# Altium footprint library PARSEC.PcbLib: 17 footprints (part 1 of 2)
Each footprint in its own frame and in the unit in brackets; x right, y up, seen from the top. Pads: shape width x height; smd on the part's side, far side on the other; paste and mask are expansions set on the pad; w line width, h text height; cw(c..) or ccw(c..) is an arc to the next point about the centre after c.
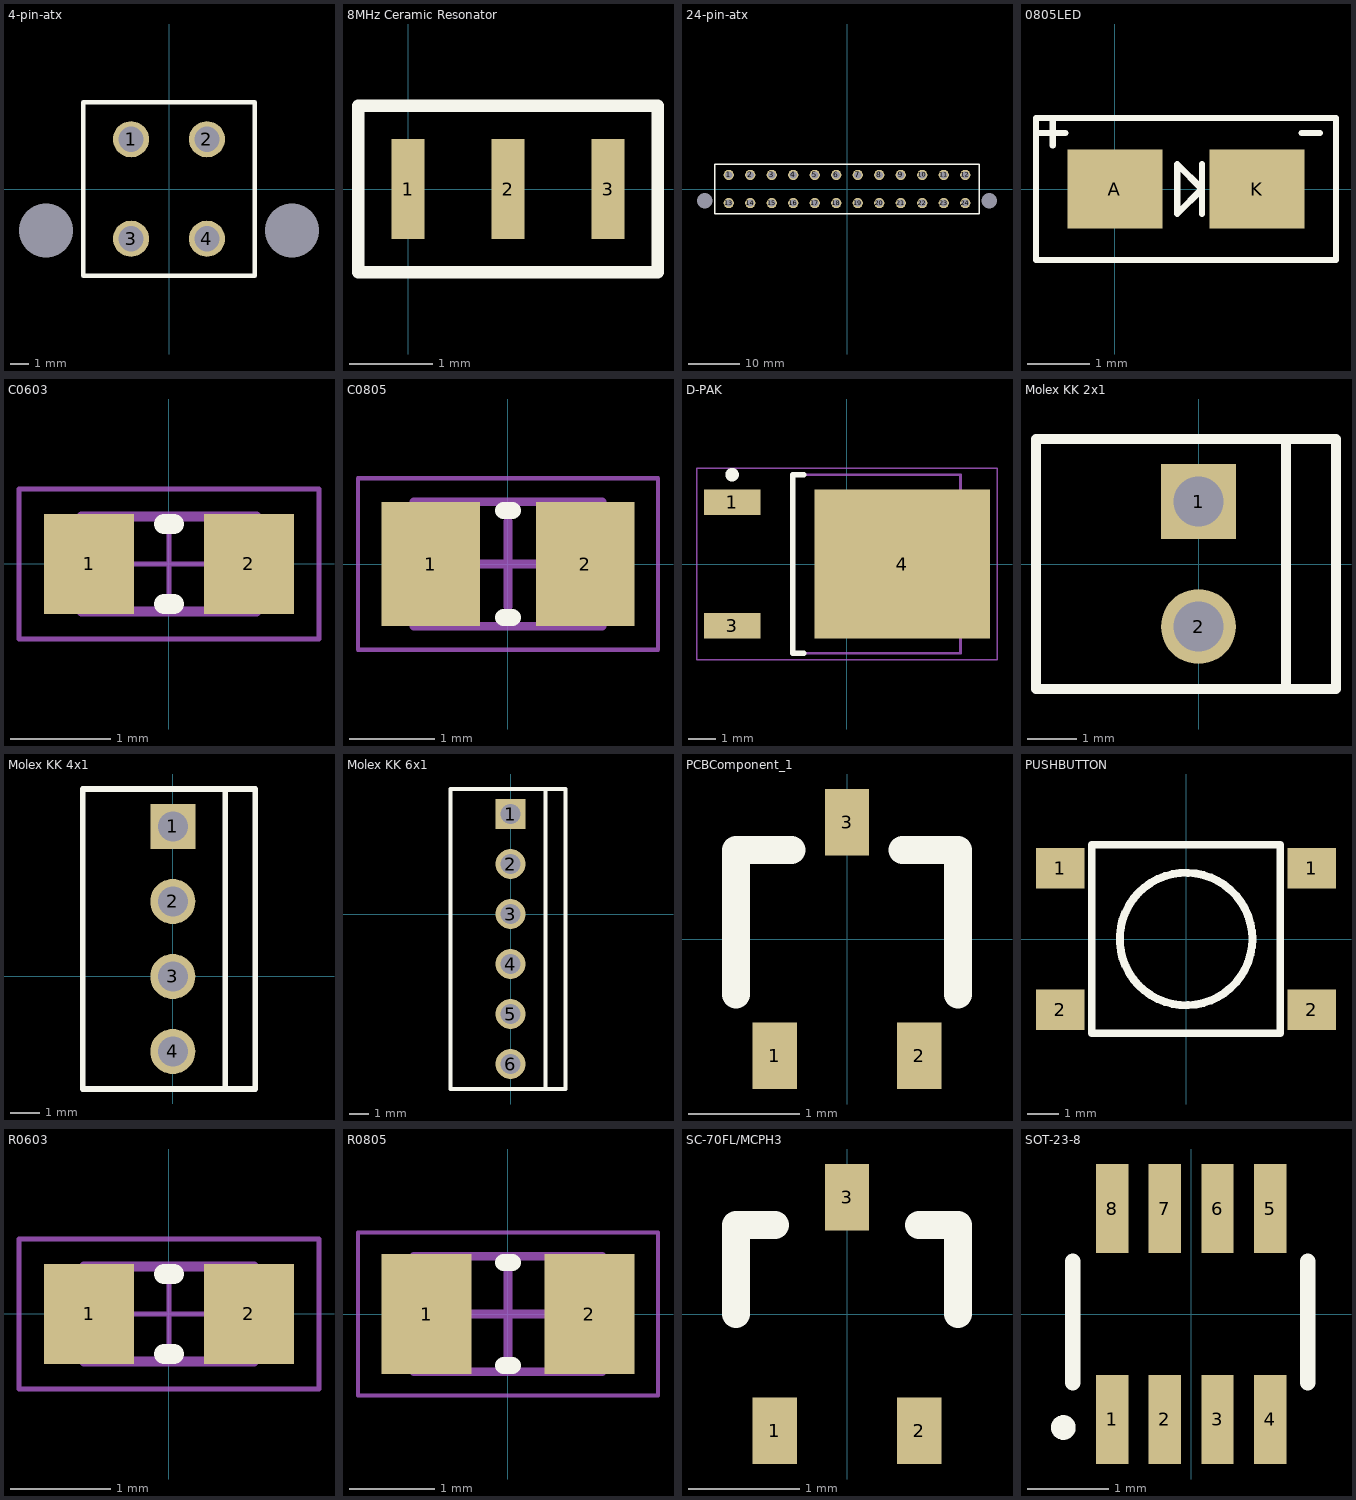
[diagram p0: the footprints below, top view; thin cyan lines are the x and y axes]

## 4-pin-atx [mm]
pads (6):
  round 2 hole 1.4: 1(-2.1,2.75) 2(2.1,2.75) 3(-2.1,-2.75) 4(2.1,-2.75)
  round 2 hole 3: ""(-6.8,-2.29) ""(6.8,-2.29)
Top Overlay:
  lines w0.254: -4.75,-4.8 4.75,-4.8 4.75,4.8 -4.75,4.8 -4.75,-4.8

## 8MHz Ceramic Resonator [mm] "8MHz Ceramic Resonator Murata"
pads (3):
  rect 0.4x1.2 smd: 1(0,0) 2(1.2,0) 3(2.4,0)
Top Overlay:
  lines w0.15: -0.6,-1 3,-1 3,1 -0.6,1 -0.6,-1
3D body "CSTCE.step": height 0.7, standoff 0, extent -0.4,-0.65 2.8,0.65

## 24-pin-atx [mm]
pads (26):
  round 2 hole 1.4: 1(-23.1,2.75) 2(-18.9,2.75) 3(-14.7,2.75) 4(-10.5,2.75) 5(-6.3,2.75) 6(-2.1,2.75) 7(2.1,2.75) 8(6.3,2.75) 9(10.5,2.75) 10(14.7,2.75) 11(18.9,2.75) 12(23.1,2.75) 13(-23.1,-2.75) 14(-18.9,-2.75) 15(-14.7,-2.75) 16(-10.5,-2.75) 17(-6.3,-2.75) 18(-2.1,-2.75) 19(2.1,-2.75) 20(6.3,-2.75) 21(10.5,-2.75) 22(14.7,-2.75) 23(18.9,-2.75) 24(23.1,-2.75)
  round 2 hole 3: ""(-27.8,-2.29) ""(27.8,-2.29)
Top Overlay:
  lines w0.254: -25.8,-4.8 25.8,-4.8 25.8,4.8 -25.8,4.8 -25.8,-4.8

## 0805LED [mil]
pads (2):
  rect 60x50 smd: A(0,0) K(90,0)
Top Overlay:
  lines w4: -50,35.43 -31.5,35.43 ; -39.37,27.56 -39.37,43.31 ; 55.12,-15.75 55.12,15.75 ; 118.11,35.43 129.92,35.43 ; -50,-45 140,-45 140,45 -50,45 -50,-45 ; 39.37,-15.75 55.12,0 39.37,15.75 39.37,-15.75
3D body "User Library-LED SMD0805.step": height 33.45, standoff 0.23, extent -0.6,-15.68 80.6,20

## C0603 [mm] "Chip Capacitor, Body 1.6x0.8mm, Height 1.0mm, IPC Medium Density"
height 1
pads (2):
  rect 0.9x1 smd: 1(-0.8,0) 2(0.8,0)
Top Overlay:
  lines w0.2: -0.05,-0.4 0.05,-0.4 ; -0.05,0.4 0.05,0.4
Mechanical 13:
  lines w0.1: -0.875,-0.475 0.875,-0.475 0.875,0.475 -0.875,0.475 -0.875,-0.475
Mechanical 15:
  lines w0.05: -0.475,0 0.475,0 ; 0,-0.475 0,0.475 ; -1.5,-0.75 1.5,-0.75 1.5,0.75 -1.5,0.75 -1.5,-0.75
3D body: height 1, standoff 0, extent 0.525,-0.475 0.875,0.475
3D body: height 1, standoff 0, extent -0.875,-0.475 -0.525,0.475
3D body: height 1, standoff 0, extent -0.525,-0.475 0.525,0.475

## C0805 [mm] "Chip Capacitor, Body 2.0x1.2mm, Height 0.75mm, IPC Medium Density"
height 0.75
pads (2):
  rect 1.15x1.45 smd: 1(-0.9,0) 2(0.9,0)
Top Overlay:
  lines w0.2: -0.05,-0.625 0.05,-0.625 ; -0.05,0.625 0.05,0.625
Mechanical 13:
  lines w0.1: -1.1,-0.725 1.1,-0.725 1.1,0.725 -1.1,0.725 -1.1,-0.725
Mechanical 15:
  lines w0.05: -1.75,-1 1.75,-1 1.75,1 -1.75,1 -1.75,-1
  lines w0.1: -0.5,0 0.5,0 ; 0,-0.5 0,0.5
3D body "User Library-cap0805.STEP": height 0.93, standoff -0.01, extent -1.425,-0.667 1.575,0.733

## D-PAK [mm] "D-PAK, 4-Leads, Body 6.1x6.5mm, Pitch 2.28mm, Lead Span 9.7mm, IPC Medium Density"
height 2.4
pads (3):
  rect 2.1x0.95 smd: 1(-4.25,2.28) 3(-4.25,-2.28)
  rect 6.5x5.5 smd: 4(2.05,0)
Top Overlay:
  circle w0.25: c-4.25,3.305 r0.125
  lines w0.2: -1.6,-3.3 -2,-3.3 -2,3.3 -1.6,3.3
Mechanical 13:
  lines w0.1: -2,-3.3 -2,3.3 4.2,3.3 4.2,-3.3 -2,-3.3
Mechanical 15:
  lines w0.05: -5.55,-3.55 -5.55,3.55 5.55,3.55 5.55,-3.55 -5.55,-3.55
  lines w0.1: -0.5,0 0.5,0 ; 0,-0.5 0,0.5
3D body "User Library-TO252AA.step": height 2.3, standoff -0.01, extent -4.596,-3.278 5.104,3.302

## Molex KK 2x1 [mil]
pads (2):
  rect 60x60 hole 40: 1(0,50)
  round 60 hole 40: 2(0,-50)
Top Overlay:
  lines w7.87: -120,-100 110,-100 110,100 -130,100 -130,-60 -130,-100 -110,-100 ; 70,-100 70,100
3D body "User Library-molex kk 0_1in latching 2 way vertical header.step": height 457.5, standoff -142.5, extent -120,-100 110,100

## Molex KK 4x1 [mil]
pads (4):
  rect 60x60 hole 40: 1(0,200)
  round 60 hole 40: 2(0,100) 3(0,0) 4(0,-100)
Top Overlay:
  lines w7.87: 70,-150 70,250 ; -120,-150 -120,-120 -120,250 110,250 110,-150 -120,-150
3D body "User Library-molex kk 0_1in latching 4 way vertical header.step": height 457.5, standoff -142.5, extent -120,-150 110,250

## Molex KK 6x1 [mil]
pads (6):
  rect 60x60 hole 40: 1(0,200)
  round 60 hole 40: 2(0,100) 3(0,0) 4(0,-100) 5(0,-200) 6(0,-300)
Top Overlay:
  lines w7.87: 70,-350 70,250 ; -120,-350 110,-350 110,250 -120,250 -120,-120 -120,-350
3D body "User Library-molex kk 0_1in latching 6 way vertical header.step": height 457.5, standoff -142.5, extent -120,-350 110,250

## PCBComponent_1 [mm]
pads (3):
  rect 0.4x0.6 all layers, no hole: 1(-0.65,-1.05) 2(0.65,-1.05) 3(0,1.05)
Top Overlay:
  lines w0.254: -1,-0.5 -1,0.8 -0.5,0.8 ; 0.5,0.8 1,0.8 1,-0.5

## PUSHBUTTON [mm]
pads (4):
  rect 1.55x1.3 smd: 1(-4,2.25) 1(4,2.25) 2(-4,-2.25) 2(4,-2.25)
Top Overlay:
  circle w0.254: c0,0 r2.11
  lines w0.254: -3,-3 3,-3 3,3 -3,3 -3,-3
3D body "TL3301AFxxxxG.stp": height 5.12, standoff 0.02, extent -5,-3 5,3

## R0603 [mm] "Chip Resistor, Body 1.6x0.8mm, IPC Medium Density"
height 0.6
pads (2):
  rect 0.9x1 smd: 1(-0.8,0) 2(0.8,0)
Top Overlay:
  lines w0.2: -0.05,-0.4 0.05,-0.4 ; -0.05,0.4 0.05,0.4
Mechanical 13:
  lines w0.1: -0.85,-0.475 0.85,-0.475 0.85,0.475 -0.85,0.475 -0.85,-0.475
Mechanical 15:
  lines w0.05: -0.475,0 0.475,0 ; 0,-0.475 0,0.475 ; -1.5,-0.75 1.5,-0.75 1.5,0.75 -1.5,0.75 -1.5,-0.75
3D body: height 0.6, standoff 0, extent -0.849,-0.474 -0.58,0.475
3D body: height 0.6, standoff 0, extent -0.58,-0.474 0.581,0.475
3D body: height 0.6, standoff 0, extent 0.581,-0.474 0.85,0.475

## R0805 [mm] "Chip Resistor, Body 2.0x1.3mm, IPC Medium Density"
height 0.7
pads (2):
  rect 1.05x1.4 smd: 1(-0.95,0) 2(0.95,0)
Top Overlay:
  lines w0.2: -0.05,-0.6 0.05,-0.6 ; -0.05,0.6 0.05,0.6
Mechanical 13:
  lines w0.1: -1.1,-0.675 1.1,-0.675 1.1,0.675 -1.1,0.675 -1.1,-0.675
Mechanical 15:
  lines w0.05: -1.75,-0.95 1.75,-0.95 1.75,0.95 -1.75,0.95 -1.75,-0.95
  lines w0.1: -0.5,0 0.5,0 ; 0,-0.5 0,0.5
3D body "User Library-res0805.STEP": height 0.53, standoff 0, extent -1.465,-0.702 1.535,0.698

## SC-70FL/MCPH3 [mm]
pads (3):
  rect 0.4x0.6 smd: 1(-0.65,-1.05) 2(0.65,-1.05) 3(0,1.05)
Top Overlay:
  lines w0.254: -1,0 -1,0.8 -0.65,0.8 ; 0.65,0.8 1,0.8 1,0

## SOT-23-8 [mm] "SOT-23-8"
pads (8):
  rect 0.4x1.1 smd: 1(-0.975,-1.3) 2(-0.325,-1.3) 3(0.325,-1.3) 4(0.975,-1.3) 5(0.975,1.3) 6(0.325,1.3) 7(-0.325,1.3) 8(-0.975,1.3)
Top Overlay:
  circle w0.152: c-1.576,-1.4 r0.076
  lines w0.191: -1.46,-0.85 -1.46,0.65 ; 1.44,-0.85 1.44,0.65
3D body "User Library-SOT23-8.step": height 1.11, standoff 0, extent -1.5,-1.402 1.5,1.402